# Altium schematic symbol library NE556D.SchLib: 1 symbol
Pins are listed as number, name and electrical type; pins without a type are passive.

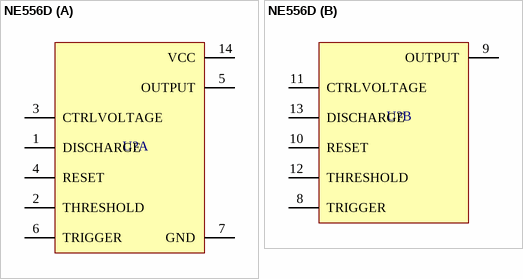
[diagram p0: symbol NE556D]

## NE556D
designator U?
Dual 555 Timer 500kHz; MF: STMicroelectronics; MP: NE556D; Value: *; Availability: Unavailable; Package: SOIC-14 Texas Instruments; Price: None; SnapEDA_Link: https://www.snapeda.com/parts/NE556D/STMicroelectronics/view-part/12906/?ref=snap
footprint SOIC127P600X175-14N
part A pins: 1 DISCHARGE, 2 THRESHOLD, 3 CTRLVOLTAGE, 4 RESET, 5 OUTPUT, 6 TRIGGER, 7 GND (power), 14 VCC (power)
part B pins: 8 TRIGGER, 9 OUTPUT, 10 RESET, 11 CTRLVOLTAGE, 12 THRESHOLD, 13 DISCHARGE